# Altium schematic symbol library TPS79501.SchLib: 1 symbol
Pins are listed as number, name and electrical type; pins without a type are passive.

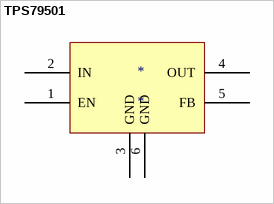
[diagram p0: symbol TPS79501]

## TPS79501
designator *
footprint SOT223-6L (SOT223, 6-Leads, Body 6.5x3.5mm, Pitch 1.27mm, Lead Span 7mm, IPC High Density)
pins: 1 EN, 2 IN, 3 GND, 4 OUT, 5 FB, 6 GND